# EAGLE library part XBEE-S2 (library Xbee)
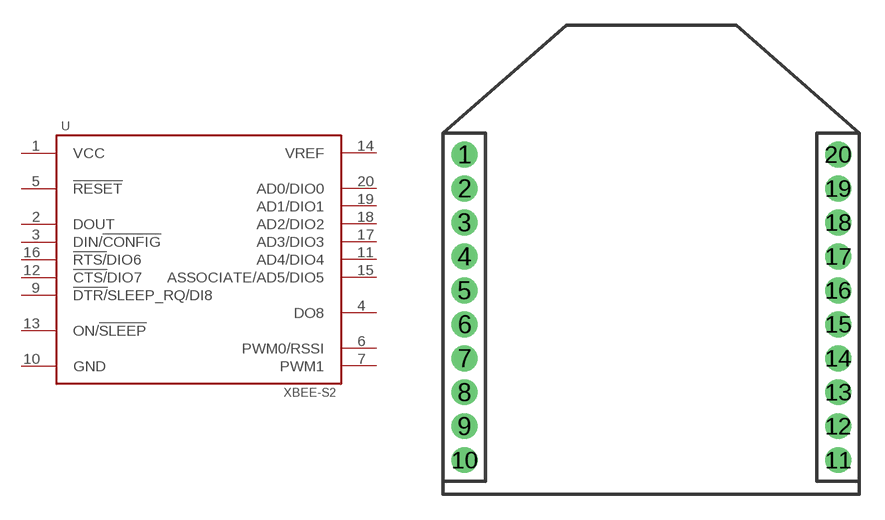
[diagram p1: symbol with the pads of XBEE; footprint XBEE]

Designator prefix -

## XBEE-S2  [XBEE]
1  VCC
2  DOUT
3  DIN/!CONFIG
4  DO8
5  !RESET
6  PWM0/RSSI
7  PWM1
9  !DTR/!SLEEP_RQ/DI8
10  GND
11  AD4/DIO4
12  !CTS/!DIO7
13  ON/!SLEEP
14  VREF
15  ASSOCIATE/AD5/DIO5
16  !RTS/!DIO6
17  AD3/DIO3
18  AD2/DIO2
19  AD1/DIO1
20  AD0/DIO0

## Footprint XBEE (pad centres in mm)
drill 0.8 pad 1.524: 1 -11,20; 2 -11,18; 3 -11,16; 4 -11,14; 5 -11,12; 6 -11,10; 7 -11,8; 8 -11,6; 9 -11,4; 10 -11,2; 11 11,2; 12 11,4; 13 11,6; 14 11,8; 15 11,10; 16 11,12; 17 11,14; 18 11,16; 19 11,18; 20 11,20